# EAGLE library part MK66FN2M0VLQ18 (library PatternAgents-NXP)
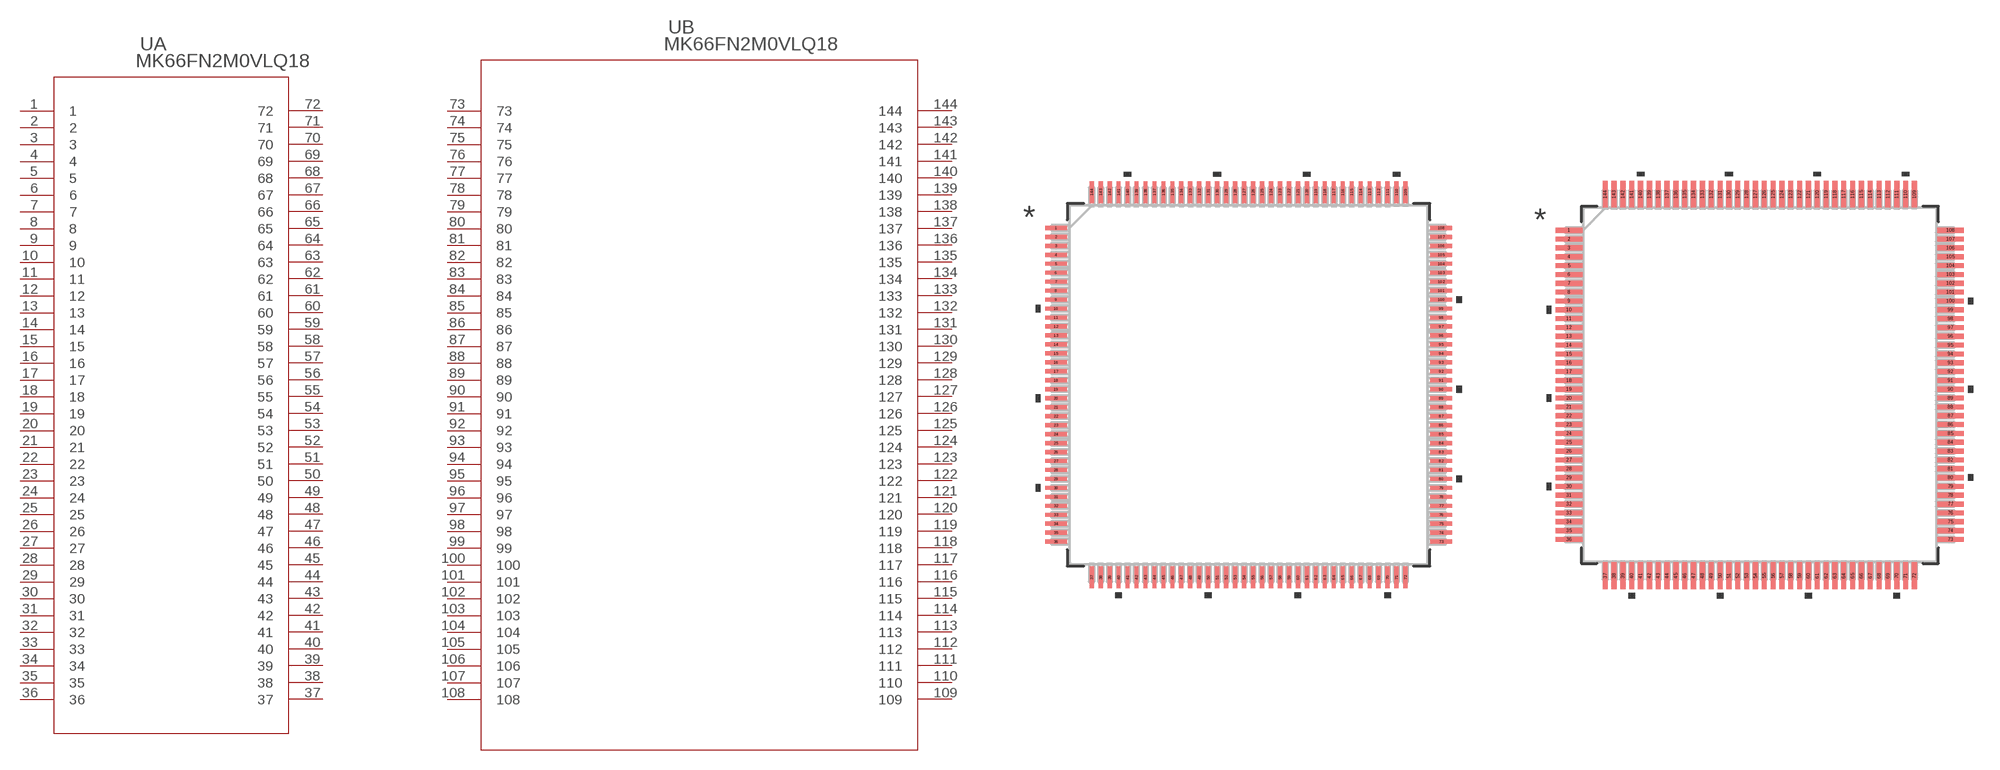
[diagram p13: symbol with the pads of 98ASS23177W; footprints 98ASS23177W, 98ASS23177W-M]

Designator prefix U; gates A=MK66FN2M0VLQ18_A B=MK66FN2M0VLQ18_B

## MK66FN2M0VLQ18 (MANUFACTURER_PART_NUMBER: MK66FN2M0VLQ18; VENDOR: NXP)  [98ASS23177W]
1  A:1  pas
2  A:2  pas
3  A:3  pas
4  A:4  pas
5  A:5  pwr
6  A:6  pwr
7  A:7  pas
8  A:8  pas
9  A:9  pas
10  A:10  pas
11  A:11  pas
12  A:12  pas
13  A:13  pas
14  A:14  pas
15  A:15  pas
16  A:16  pwr
17  A:17  pwr
18  A:18  pwr
19  A:19  pas
20  A:20  pas
21  A:21  out
22  A:22  in
23  A:23  in
24  A:24  pwr
25  A:25  pas
26  A:26  pas
27  A:27  pas
28  A:28  pas
29  A:29  pas
30  A:30  pas
31  A:31  pwr
32  A:32  pwr
33  A:33  pwr
34  A:34  pwr
35  A:35  pas
36  A:36  pas
37  A:37  pas
38  A:38  pas
39  A:39  pas
40  A:40  pas
41  A:41  pas
42  A:42  pwr
43  A:43  pwr
44  A:44  pwr
45  A:45  pas
46  A:46  pas
47  A:47  pas
48  A:48  pas
49  A:49  pas
50  A:50  pas
51  A:51  pas
52  A:52  pas
53  A:53  pas
54  A:54  pas
55  A:55  pas
56  A:56  pwr
57  A:57  pwr
58  A:58  pas
59  A:59  pas
60  A:60  pas
61  A:61  pas
62  A:62  pas
63  A:63  pas
64  A:64  pas
65  A:65  pas
66  A:66  pas
67  A:67  pas
68  A:68  pas
69  A:69  pas
70  A:70  pwr
71  A:71  pwr
72  A:72  pas
73  B:73  pas
74  B:74  pas
75  B:75  pas
76  B:76  pas
77  B:77  pas
78  B:78  pas
79  B:79  pas
80  B:80  pas
81  B:81  pas
82  B:82  pas
83  B:83  pas
84  B:84  pas
85  B:85  pas
86  B:86  pas
87  B:87  pas
88  B:88  pas
89  B:89  pas
90  B:90  pas
91  B:91  pas
92  B:92  pas
93  B:93  pwr
94  B:94  pwr
95  B:95  pas
96  B:96  pas
97  B:97  pas
98  B:98  pas
99  B:99  pas
100  B:100  pas
101  B:101  pas
102  B:102  pas
103  B:103  pas
104  B:104  pas
105  B:105  pas
106  B:106  pas
107  B:107  pwr
108  B:108  pwr
109  B:109  pas
110  B:110  pas
111  B:111  pas
112  B:112  pas
113  B:113  pas
114  B:114  pas
115  B:115  pas
116  B:116  pas
117  B:117  pas
118  B:118  pas
119  B:119  pas
120  B:120  pas
121  B:121  pwr
122  B:122  pwr
123  B:123  pas
124  B:124  pas
125  B:125  pas
126  B:126  pas
127  B:127  pas
128  B:128  pas
129  B:129  pas
130  B:130  pas
131  B:131  pas
132  B:132  pas
133  B:133  pas
134  B:134  pwr
135  B:135  pwr
136  B:136  pas
137  B:137  pas
138  B:138  pas
139  B:139  pas
140  B:140  pas
141  B:141  pas
142  B:142  pas
143  B:143  pas
144  B:144  pas

## MK66FN2M0VLQ1898ASS23177W-M (MANUFACTURER_PART_NUMBER: MK66FN2M0VLQ18; VENDOR: NXP)  [98ASS23177W-M]
Pads as for 98ASS23177W

## MK66FN2M0VLQ1898ASS23177W-L (MANUFACTURER_PART_NUMBER: MK66FN2M0VLQ18; VENDOR: NXP)  [98ASS23177W-L]
Pads as for 98ASS23177W

## Footprint 98ASS23177W (pad centres in mm)
smd 1.219 x 0.229: 1 -10.744,8.75; 2 -10.744,8.25; 3 -10.744,7.75; 4 -10.744,7.25; 5 -10.744,6.75; 6 -10.744,6.25; 7 -10.744,5.75; 8 -10.744,5.25; 9 -10.744,4.75; 10 -10.744,4.25; 11 -10.744,3.75; 12 -10.744,3.25; 13 -10.744,2.75; 14 -10.744,2.25; 15 -10.744,1.75; 16 -10.744,1.25; 17 -10.744,0.75; 18 -10.744,0.25; 19 -10.744,-0.25; 20 -10.744,-0.75; 21 -10.744,-1.25; 22 -10.744,-1.75; 23 -10.744,-2.25; 24 -10.744,-2.75; 25 -10.744,-3.25; 26 -10.744,-3.75; 27 -10.744,-4.25; 28 -10.744,-4.75; 29 -10.744,-5.25; 30 -10.744,-5.75; 31 -10.744,-6.25; 32 -10.744,-6.75; 33 -10.744,-7.25; 34 -10.744,-7.75; 35 -10.744,-8.25; 36 -10.744,-8.75; 73 10.744,-8.75; 74 10.744,-8.25; 75 10.744,-7.75; 76 10.744,-7.25; 77 10.744,-6.75; 78 10.744,-6.25; 79 10.744,-5.75; 80 10.744,-5.25; 81 10.744,-4.75; 82 10.744,-4.25; 83 10.744,-3.75; 84 10.744,-3.25; 85 10.744,-2.75; 86 10.744,-2.25; 87 10.744,-1.75; 88 10.744,-1.25; 89 10.744,-0.75; 90 10.744,-0.25; 91 10.744,0.25; 92 10.744,0.75; 93 10.744,1.25; 94 10.744,1.75; 95 10.744,2.25; 96 10.744,2.75; 97 10.744,3.25; 98 10.744,3.75; 99 10.744,4.25; 100 10.744,4.75; 101 10.744,5.25; 102 10.744,5.75; 103 10.744,6.25; 104 10.744,6.75; 105 10.744,7.25; 106 10.744,7.75; 107 10.744,8.25; 108 10.744,8.75
smd 0.229 x 1.219: 37 -8.75,-10.744; 38 -8.25,-10.744; 39 -7.75,-10.744; 40 -7.25,-10.744; 41 -6.75,-10.744; 42 -6.25,-10.744; 43 -5.75,-10.744; 44 -5.25,-10.744; 45 -4.75,-10.744; 46 -4.25,-10.744; 47 -3.75,-10.744; 48 -3.25,-10.744; 49 -2.75,-10.744; 50 -2.25,-10.744; 51 -1.75,-10.744; 52 -1.25,-10.744; 53 -0.75,-10.744; 54 -0.25,-10.744; 55 0.25,-10.744; 56 0.75,-10.744; 57 1.25,-10.744; 58 1.75,-10.744; 59 2.25,-10.744; 60 2.75,-10.744; 61 3.25,-10.744; 62 3.75,-10.744; 63 4.25,-10.744; 64 4.75,-10.744; 65 5.25,-10.744; 66 5.75,-10.744; 67 6.25,-10.744; 68 6.75,-10.744; 69 7.25,-10.744; 70 7.75,-10.744; 71 8.25,-10.744; 72 8.75,-10.744; 109 8.75,10.744; 110 8.25,10.744; 111 7.75,10.744; 112 7.25,10.744; 113 6.75,10.744; 114 6.25,10.744; 115 5.75,10.744; 116 5.25,10.744; 117 4.75,10.744; 118 4.25,10.744; 119 3.75,10.744; 120 3.25,10.744; 121 2.75,10.744; 122 2.25,10.744; 123 1.75,10.744; 124 1.25,10.744; 125 0.75,10.744; 126 0.25,10.744; 127 -0.25,10.744; 128 -0.75,10.744; 129 -1.25,10.744; 130 -1.75,10.744; 131 -2.25,10.744; 132 -2.75,10.744; 133 -3.25,10.744; 134 -3.75,10.744; 135 -4.25,10.744; 136 -4.75,10.744; 137 -5.25,10.744; 138 -5.75,10.744; 139 -6.25,10.744; 140 -6.75,10.744; 141 -7.25,10.744; 142 -7.75,10.744; 143 -8.25,10.744; 144 -8.75,10.744

## Footprint 98ASS23177W-M (pad centres in mm)
smd 1.524 x 0.279: 1 -10.795,8.75; 2 -10.795,8.25; 3 -10.795,7.75; 4 -10.795,7.25; 5 -10.795,6.75; 6 -10.795,6.25; 7 -10.795,5.75; 8 -10.795,5.25; 9 -10.795,4.75; 10 -10.795,4.25; 11 -10.795,3.75; 12 -10.795,3.25; 13 -10.795,2.75; 14 -10.795,2.25; 15 -10.795,1.75; 16 -10.795,1.25; 17 -10.795,0.75; 18 -10.795,0.25; 19 -10.795,-0.25; 20 -10.795,-0.75; 21 -10.795,-1.25; 22 -10.795,-1.75; 23 -10.795,-2.25; 24 -10.795,-2.75; 25 -10.795,-3.25; 26 -10.795,-3.75; 27 -10.795,-4.25; 28 -10.795,-4.75; 29 -10.795,-5.25; 30 -10.795,-5.75; 31 -10.795,-6.25; 32 -10.795,-6.75; 33 -10.795,-7.25; 34 -10.795,-7.75; 35 -10.795,-8.25; 36 -10.795,-8.75; 73 10.795,-8.75; 74 10.795,-8.25; 75 10.795,-7.75; 76 10.795,-7.25; 77 10.795,-6.75; 78 10.795,-6.25; 79 10.795,-5.75; 80 10.795,-5.25; 81 10.795,-4.75; 82 10.795,-4.25; 83 10.795,-3.75; 84 10.795,-3.25; 85 10.795,-2.75; 86 10.795,-2.25; 87 10.795,-1.75; 88 10.795,-1.25; 89 10.795,-0.75; 90 10.795,-0.25; 91 10.795,0.25; 92 10.795,0.75; 93 10.795,1.25; 94 10.795,1.75; 95 10.795,2.25; 96 10.795,2.75; 97 10.795,3.25; 98 10.795,3.75; 99 10.795,4.25; 100 10.795,4.75; 101 10.795,5.25; 102 10.795,5.75; 103 10.795,6.25; 104 10.795,6.75; 105 10.795,7.25; 106 10.795,7.75; 107 10.795,8.25; 108 10.795,8.75
smd 0.279 x 1.524: 37 -8.75,-10.795; 38 -8.25,-10.795; 39 -7.75,-10.795; 40 -7.25,-10.795; 41 -6.75,-10.795; 42 -6.25,-10.795; 43 -5.75,-10.795; 44 -5.25,-10.795; 45 -4.75,-10.795; 46 -4.25,-10.795; 47 -3.75,-10.795; 48 -3.25,-10.795; 49 -2.75,-10.795; 50 -2.25,-10.795; 51 -1.75,-10.795; 52 -1.25,-10.795; 53 -0.75,-10.795; 54 -0.25,-10.795; 55 0.25,-10.795; 56 0.75,-10.795; 57 1.25,-10.795; 58 1.75,-10.795; 59 2.25,-10.795; 60 2.75,-10.795; 61 3.25,-10.795; 62 3.75,-10.795; 63 4.25,-10.795; 64 4.75,-10.795; 65 5.25,-10.795; 66 5.75,-10.795; 67 6.25,-10.795; 68 6.75,-10.795; 69 7.25,-10.795; 70 7.75,-10.795; 71 8.25,-10.795; 72 8.75,-10.795; 109 8.75,10.795; 110 8.25,10.795; 111 7.75,10.795; 112 7.25,10.795; 113 6.75,10.795; 114 6.25,10.795; 115 5.75,10.795; 116 5.25,10.795; 117 4.75,10.795; 118 4.25,10.795; 119 3.75,10.795; 120 3.25,10.795; 121 2.75,10.795; 122 2.25,10.795; 123 1.75,10.795; 124 1.25,10.795; 125 0.75,10.795; 126 0.25,10.795; 127 -0.25,10.795; 128 -0.75,10.795; 129 -1.25,10.795; 130 -1.75,10.795; 131 -2.25,10.795; 132 -2.75,10.795; 133 -3.25,10.795; 134 -3.75,10.795; 135 -4.25,10.795; 136 -4.75,10.795; 137 -5.25,10.795; 138 -5.75,10.795; 139 -6.25,10.795; 140 -6.75,10.795; 141 -7.25,10.795; 142 -7.75,10.795; 143 -8.25,10.795; 144 -8.75,10.795

## Footprint 98ASS23177W-L (pad centres in mm)
smd 0.914 x 0.178: 1 -10.693,8.75; 2 -10.693,8.25; 3 -10.693,7.75; 4 -10.693,7.25; 5 -10.693,6.75; 6 -10.693,6.25; 7 -10.693,5.75; 8 -10.693,5.25; 9 -10.693,4.75; 10 -10.693,4.25; 11 -10.693,3.75; 12 -10.693,3.25; 13 -10.693,2.75; 14 -10.693,2.25; 15 -10.693,1.75; 16 -10.693,1.25; 17 -10.693,0.75; 18 -10.693,0.25; 19 -10.693,-0.25; 20 -10.693,-0.75; 21 -10.693,-1.25; 22 -10.693,-1.75; 23 -10.693,-2.25; 24 -10.693,-2.75; 25 -10.693,-3.25; 26 -10.693,-3.75; 27 -10.693,-4.25; 28 -10.693,-4.75; 29 -10.693,-5.25; 30 -10.693,-5.75; 31 -10.693,-6.25; 32 -10.693,-6.75; 33 -10.693,-7.25; 34 -10.693,-7.75; 35 -10.693,-8.25; 36 -10.693,-8.75; 73 10.693,-8.75; 74 10.693,-8.25; 75 10.693,-7.75; 76 10.693,-7.25; 77 10.693,-6.75; 78 10.693,-6.25; 79 10.693,-5.75; 80 10.693,-5.25; 81 10.693,-4.75; 82 10.693,-4.25; 83 10.693,-3.75; 84 10.693,-3.25; 85 10.693,-2.75; 86 10.693,-2.25; 87 10.693,-1.75; 88 10.693,-1.25; 89 10.693,-0.75; 90 10.693,-0.25; 91 10.693,0.25; 92 10.693,0.75; 93 10.693,1.25; 94 10.693,1.75; 95 10.693,2.25; 96 10.693,2.75; 97 10.693,3.25; 98 10.693,3.75; 99 10.693,4.25; 100 10.693,4.75; 101 10.693,5.25; 102 10.693,5.75; 103 10.693,6.25; 104 10.693,6.75; 105 10.693,7.25; 106 10.693,7.75; 107 10.693,8.25; 108 10.693,8.75
smd 0.178 x 0.914: 37 -8.75,-10.693; 38 -8.25,-10.693; 39 -7.75,-10.693; 40 -7.25,-10.693; 41 -6.75,-10.693; 42 -6.25,-10.693; 43 -5.75,-10.693; 44 -5.25,-10.693; 45 -4.75,-10.693; 46 -4.25,-10.693; 47 -3.75,-10.693; 48 -3.25,-10.693; 49 -2.75,-10.693; 50 -2.25,-10.693; 51 -1.75,-10.693; 52 -1.25,-10.693; 53 -0.75,-10.693; 54 -0.25,-10.693; 55 0.25,-10.693; 56 0.75,-10.693; 57 1.25,-10.693; 58 1.75,-10.693; 59 2.25,-10.693; 60 2.75,-10.693; 61 3.25,-10.693; 62 3.75,-10.693; 63 4.25,-10.693; 64 4.75,-10.693; 65 5.25,-10.693; 66 5.75,-10.693; 67 6.25,-10.693; 68 6.75,-10.693; 69 7.25,-10.693; 70 7.75,-10.693; 71 8.25,-10.693; 72 8.75,-10.693; 109 8.75,10.693; 110 8.25,10.693; 111 7.75,10.693; 112 7.25,10.693; 113 6.75,10.693; 114 6.25,10.693; 115 5.75,10.693; 116 5.25,10.693; 117 4.75,10.693; 118 4.25,10.693; 119 3.75,10.693; 120 3.25,10.693; 121 2.75,10.693; 122 2.25,10.693; 123 1.75,10.693; 124 1.25,10.693; 125 0.75,10.693; 126 0.25,10.693; 127 -0.25,10.693; 128 -0.75,10.693; 129 -1.25,10.693; 130 -1.75,10.693; 131 -2.25,10.693; 132 -2.75,10.693; 133 -3.25,10.693; 134 -3.75,10.693; 135 -4.25,10.693; 136 -4.75,10.693; 137 -5.25,10.693; 138 -5.75,10.693; 139 -6.25,10.693; 140 -6.75,10.693; 141 -7.25,10.693; 142 -7.75,10.693; 143 -8.25,10.693; 144 -8.75,10.693